# EAGLE library part OPA643 (library burr-brown)
Operational Amplifier
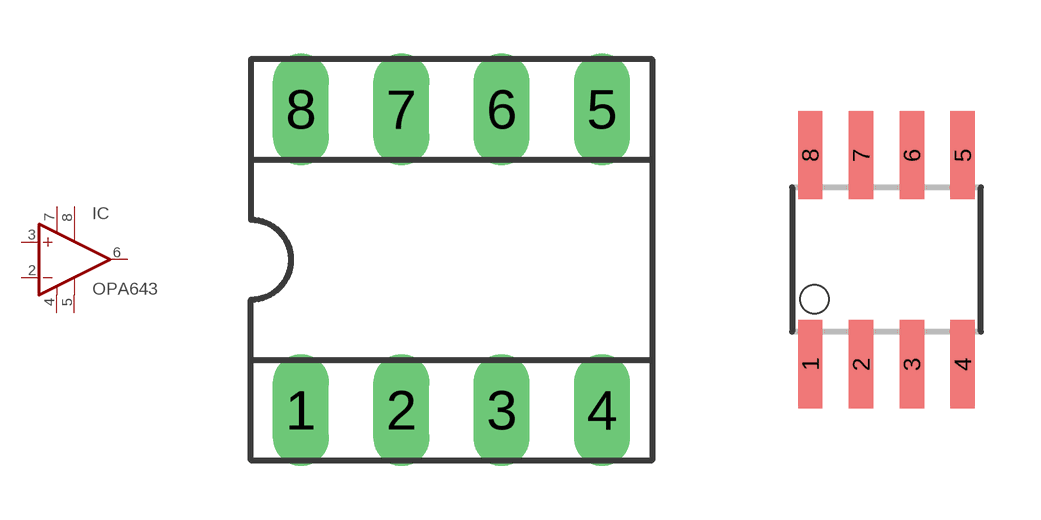
[diagram p57: symbol with the pads of DIL08; footprints DIL08, SO08]

Designator prefix IC

## OPA643P  [DIL08]
2  -IN  in
3  +IN  in
4  -VS1  pwr
5  -VS2  pwr
6  OUT  out
7  +VS1  pwr
8  +VS2  pwr

## OPA643U  [SO08]
Pads as for DIL08

## Footprint DIL08 (pad centres in mm)
Dual In Line
drill 0.813 pad 1.422 long: 1 -3.81,-3.81; 2 -1.27,-3.81; 3 1.27,-3.81; 4 3.81,-3.81; 5 3.81,3.81; 6 1.27,3.81; 7 -1.27,3.81; 8 -3.81,3.81

## Footprint SO08 (pad centres in mm)
Small Outline Package
smd 0.61 x 2.21: 1 -1.905,-2.616; 2 -0.635,-2.616; 3 0.635,-2.616; 4 1.905,-2.616; 5 1.905,2.616; 6 0.635,2.616; 7 -0.635,2.616; 8 -1.905,2.616